# EAGLE library part X__MOLEX_LIEGEND_10 (library 16112011___connector)
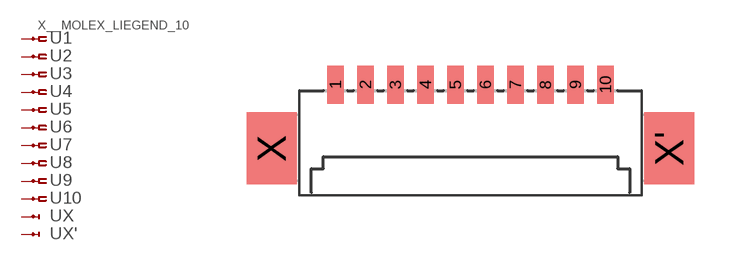
[diagram p65: symbol with the pads of MOLEX_LIEGEND_10; footprint MOLEX_LIEGEND_10]

Designator prefix -; gates 1=MOLEXPIN-NV 2=MOLEXPIN-N 3=MOLEXPIN-N 4=MOLEXPIN-N 5=MOLEXPIN-N 6=MOLEXPIN-N 7=MOLEXPIN-N 8=MOLEXPIN-N 9=MOLEXPIN-N 10=MOLEXPIN-N X=MOLEXPIN-X X'=MOLEXPIN-X

## X__MOLEX_LIEGEND_10  [MOLEX_LIEGEND_10]
1  1:1  pas
2  2:1  pas
3  3:1  pas
4  4:1  pas
5  5:1  pas
6  6:1  pas
7  7:1  pas
8  8:1  pas
9  9:1  pas
10  10:1  pas
X  X:1  pas
X'  X':1  pas

## Footprint MOLEX_LIEGEND_10 (pad centres in mm)
smd 0.7 x 1.6: 1 0,0; 2 1.25,0; 3 2.5,0; 4 3.75,0; 5 5,0; 6 6.25,0; 7 7.5,0; 8 8.75,0; 9 10,0; 10 11.25,0
smd 2.1 x 3: X -2.656,-2.656; X' 13.906,-2.656